# Altium schematic symbol library IQD Quartz Crystals 12SMX.SchLib: 1 symbol
Pins are listed as number, name and electrical type; pins without a type are passive.

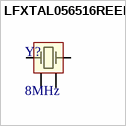
[diagram p0: symbol LFXTAL056516REEL]

## LFXTAL056516REEL
designator Y?, comment 8MHz
8MHz ±30ppm Crystal 12pF 80 Ohms 4-SMD, No Lead; Manufacturer: IQD Frequency Product Ltd.; PartNumber: LFXTAL056516REEL; Package: 12SMX-B; PackageDescription: 4-SMD, No Lead; Supplier 1: Digi-Key; Supplier Part Number 1: 1923-1017-2-ND; Value: 8MHz
footprint 12SMX-B-N (SMD 4-Pin, Body 7x5mm, IPC Medium Density)
pins: 1 OSC1, 2 GND (power), 3 OSC2, 4 GND (power)